# Altium schematic symbol library Teensy 4.0.SchLib: 1 symbol
Pins are listed as number, name and electrical type; pins without a type are passive.

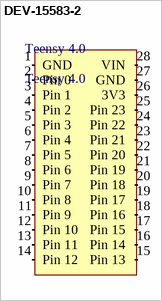
[diagram p0: symbol DEV-15583-2]

## DEV-15583-2
designator Teensy 4.0, comment Teensy 4.0
RT1062 Teensy 4.0 series ARM® Cortex®-M7 MPU Embedded Evaluation Board
footprint Teensy 4.0-Footprint-1
pins: 1 GND (power), 2 Pin 0 (io), 3 Pin 1 (io), 4 Pin 2 (io), 5 Pin 3 (io), 6 Pin 4 (io), 7 Pin 5 (io), 8 Pin 6 (io), 9 Pin 7 (io), 10 Pin 8 (io), 11 Pin 9 (io), 12 Pin 10 (io), 13 Pin 11 (io), 14 Pin 12 (io), 15 Pin 13 (io), 16 Pin 14 (io), 17 Pin 15 (io), 18 Pin 16 (io), 19 Pin 17 (io), 20 Pin 18 (io), 21 Pin 19 (io), 22 Pin 20 (io), 23 Pin 21 (io), 24 Pin 22 (io), 25 Pin 23 (io), 26 3V3 (power), 27 GND (power), 28 VIN (power)